# Altium footprint library PH2.0.PcbLib: 41 footprints (part 3 of 3)
Each footprint in its own frame and in the unit in brackets; x right, y up, seen from the top. Pads: shape width x height; smd on the part's side, far side on the other; paste and mask are expansions set on the pad; w line width, h text height; cw(c..) or ccw(c..) is an arc to the next point about the centre after c.
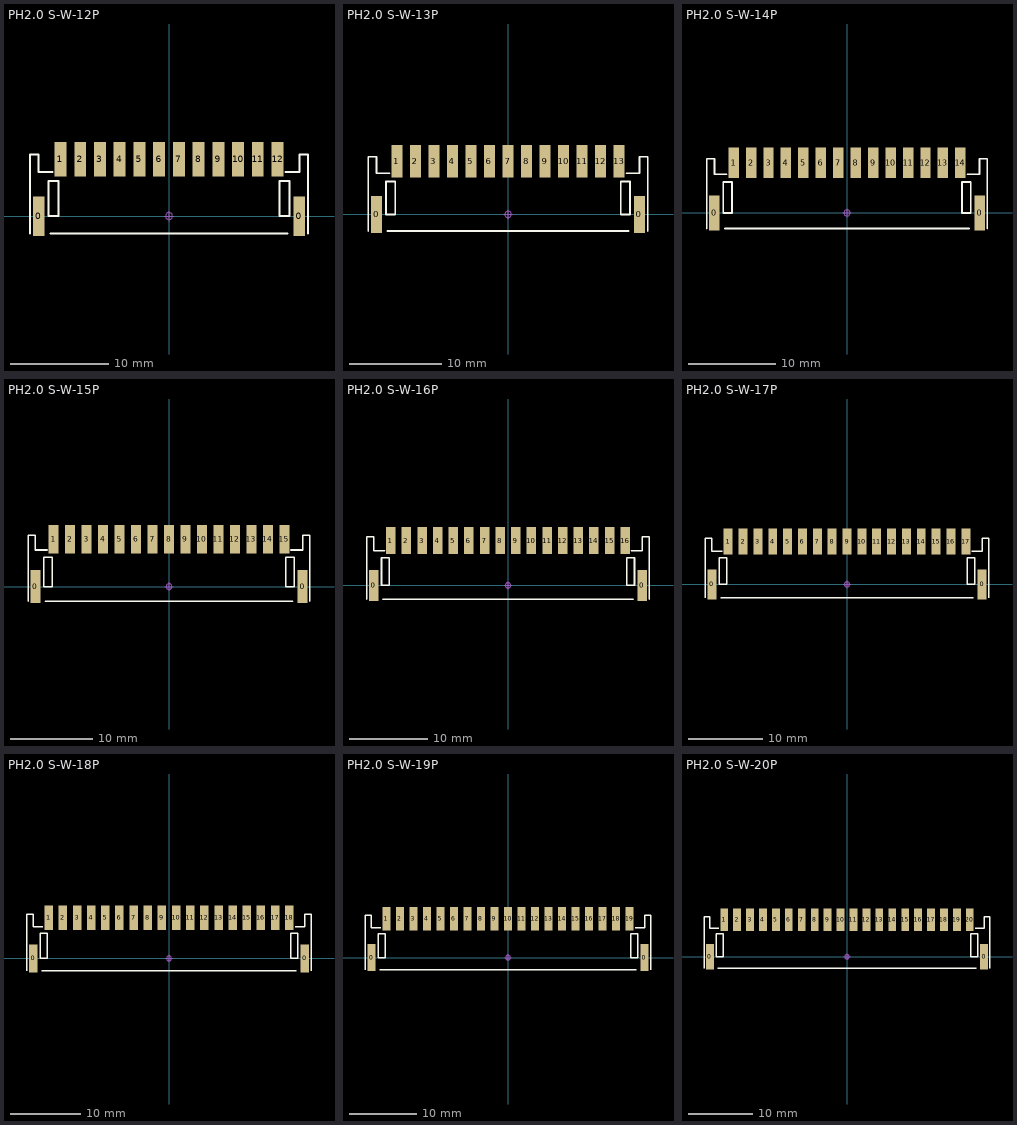
[diagram p2: the footprints below, top view; thin cyan lines are the x and y axes]

## PH2.0 S-W-12P [mm] "长：28mm，宽：7.6mm，高：5.5mm"
pads (14):
  rect 1.2x4 smd: 0(-13.2,-0.006) 0(13.2,-0.006)
  rect 1.2x3.5 smd: 1(-11,5.744) 2(-9,5.744) 3(-7,5.744) 4(-5,5.744) 5(-3,5.744) 6(-1,5.744) 7(1,5.744) 8(3,5.744) 9(5,5.744) 10(7,5.744) 11(9,5.744) 12(11,5.744)
Top Overlay:
  lines w0.2: -14.096,-1.778 -14.096,6.223 -13.207,6.223 -13.207,4.445 -11.81,4.445 ; -12,-1.778 12,-1.778 ; 11.81,4.445 13.207,4.445 13.207,6.223 14.096,6.223 14.096,-1.778 ; -12.191,0 -12.191,3.556 -11.175,3.556 -11.175,0 -12.191,0 ; 11.175,0 11.175,3.556 12.191,3.556 12.191,0 11.175,0
Mechanical 15:
  circle w0.05: c0,0 r0.35
  lines w0.05: -0.5,0 0.5,0 ; 0,-0.5 0,0.5
3D body: height 5.55, standoff 0.05, extent -14,-1.65 14,6.95

## PH2.0 S-W-13P [mm] "长：30mm，宽：7.6mm，高：5.5mm"
pads (15):
  rect 1.2x4 smd: 0(-14.2,-0.006) 0(14.2,-0.006)
  rect 1.2x3.5 smd: 1(-12,5.744) 2(-10,5.744) 3(-8,5.744) 4(-6,5.744) 5(-4,5.744) 6(-2,5.744) 7(0,5.744) 8(2,5.744) 9(4,5.744) 10(6,5.744) 11(8,5.744) 12(10,5.744) 13(12,5.744)
Top Overlay:
  lines w0.2: -15.096,-1.778 -15.096,6.223 -14.207,6.223 -14.207,4.445 -12.81,4.445 ; -13,-1.778 13,-1.778 ; 12.81,4.445 14.207,4.445 14.207,6.223 15.096,6.223 15.096,-1.778 ; -13.191,0 -13.191,3.556 -12.175,3.556 -12.175,0 -13.191,0 ; 12.175,0 12.175,3.556 13.191,3.556 13.191,0 12.175,0
Mechanical 15:
  circle w0.05: c0,0 r0.35
  lines w0.05: -0.5,0 0.5,0 ; 0,-0.5 0,0.5
3D body: height 5.55, standoff 0.05, extent -15,-1.65 15,6.95

## PH2.0 S-W-14P [mm] "长：32mm，宽：7.6mm，高：5.5mm"
pads (16):
  rect 1.2x4 smd: 0(-15.2,-0.006) 0(15.2,-0.006)
  rect 1.2x3.5 smd: 1(-13,5.744) 2(-11,5.744) 3(-9,5.744) 4(-7,5.744) 5(-5,5.744) 6(-3,5.744) 7(-1,5.744) 8(1,5.744) 9(3,5.744) 10(5,5.744) 11(7,5.744) 12(9,5.744) 13(11,5.744) 14(13,5.744)
Top Overlay:
  lines w0.2: -16.096,-1.778 -16.096,6.223 -15.207,6.223 -15.207,4.445 -13.81,4.445 ; -14,-1.778 14,-1.778 ; 13.81,4.445 15.207,4.445 15.207,6.223 16.096,6.223 16.096,-1.778 ; -14.191,0 -14.191,3.556 -13.175,3.556 -13.175,0 -14.191,0 ; 13.175,0 13.175,3.556 14.191,3.556 14.191,0 13.175,0
Mechanical 15:
  circle w0.05: c0,0 r0.35
  lines w0.05: -0.5,0 0.5,0 ; 0,-0.5 0,0.5
3D body: height 5.55, standoff 0.05, extent -16,-1.65 16,6.95

## PH2.0 S-W-15P [mm] "长：34mm，宽：7.6mm，高：5.5mm"
pads (17):
  rect 1.2x4 smd: 0(-16.2,-0.006) 0(16.2,-0.006)
  rect 1.2x3.5 smd: 1(-14,5.744) 2(-12,5.744) 3(-10,5.744) 4(-8,5.744) 5(-6,5.744) 6(-4,5.744) 7(-2,5.744) 8(0,5.744) 9(2,5.744) 10(4,5.744) 11(6,5.744) 12(8,5.744) 13(10,5.744) 14(12,5.744) 15(14,5.744)
Top Overlay:
  lines w0.2: -17.096,-1.778 -17.096,6.223 -16.207,6.223 -16.207,4.445 -14.81,4.445 ; -15,-1.778 15,-1.778 ; 14.81,4.445 16.207,4.445 16.207,6.223 17.096,6.223 17.096,-1.778 ; -15.191,0 -15.191,3.556 -14.175,3.556 -14.175,0 -15.191,0 ; 14.175,0 14.175,3.556 15.191,3.556 15.191,0 14.175,0
Mechanical 15:
  circle w0.05: c0,0 r0.35
  lines w0.05: -0.5,0 0.5,0 ; 0,-0.5 0,0.5
3D body: height 5.55, standoff 0.05, extent -17,-1.65 17,6.95

## PH2.0 S-W-16P [mm] "长：36mm，宽：7.6mm，高：5.5mm"
pads (18):
  rect 1.2x4 smd: 0(-17.2,-0.006) 0(17.2,-0.006)
  rect 1.2x3.5 smd: 1(-15,5.744) 2(-13,5.744) 3(-11,5.744) 4(-9,5.744) 5(-7,5.744) 6(-5,5.744) 7(-3,5.744) 8(-1,5.744) 9(1,5.744) 10(3,5.744) 11(5,5.744) 12(7,5.744) 13(9,5.744) 14(11,5.744) 15(13,5.744) 16(15,5.744)
Top Overlay:
  lines w0.2: -18.096,-1.778 -18.096,6.223 -17.207,6.223 -17.207,4.445 -15.81,4.445 ; -16,-1.778 16,-1.778 ; 15.81,4.445 17.207,4.445 17.207,6.223 18.096,6.223 18.096,-1.778 ; -16.191,0 -15.175,0 -15.175,3.556 -16.191,3.556 -16.191,0 ; 15.175,0 16.191,0 16.191,3.556 15.175,3.556 15.175,0
Mechanical 15:
  circle w0.05: c0,0 r0.35
  lines w0.05: -0.5,0 0.5,0 ; 0,-0.5 0,0.5
3D body: height 5.55, standoff 0.05, extent -18,-1.65 18,6.95

## PH2.0 S-W-17P [mm] "长：38mm，宽：7.6mm，高：5.5mm"
pads (19):
  rect 1.2x4 smd: 0(-18.2,-0.006) 0(18.2,-0.006)
  rect 1.2x3.5 smd: 1(-16,5.744) 2(-14,5.744) 3(-12,5.744) 4(-10,5.744) 5(-8,5.744) 6(-6,5.744) 7(-4,5.744) 8(-2,5.744) 9(0,5.744) 10(2,5.744) 11(4,5.744) 12(6,5.744) 13(8,5.744) 14(10,5.744) 15(12,5.744) 16(14,5.744) 17(16,5.744)
Top Overlay:
  lines w0.2: -19.096,-1.778 -19.096,6.223 -18.207,6.223 -18.207,4.445 -16.81,4.445 ; -17,-1.778 17,-1.778 ; 16.81,4.445 18.207,4.445 18.207,6.223 19.096,6.223 19.096,-1.778 ; -17.191,0 -17.191,3.556 -16.175,3.556 -16.175,0 -17.191,0 ; 16.175,0 16.175,3.556 17.191,3.556 17.191,0 16.175,0
Mechanical 15:
  circle w0.05: c0,0 r0.35
  lines w0.05: -0.5,0 0.5,0 ; 0,-0.5 0,0.5
3D body: height 5.55, standoff 0.05, extent -19,-1.65 19,6.95

## PH2.0 S-W-18P [mm] "长：40mm，宽：7.6mm，高：5.5mm"
pads (20):
  rect 1.2x4 smd: 0(-19.2,-0.006) 0(19.2,-0.006)
  rect 1.2x3.5 smd: 1(-17,5.744) 2(-15,5.744) 3(-13,5.744) 4(-11,5.744) 5(-9,5.744) 6(-7,5.744) 7(-5,5.744) 8(-3,5.744) 9(-1,5.744) 10(1,5.744) 11(3,5.744) 12(5,5.744) 13(7,5.744) 14(9,5.744) 15(11,5.744) 16(13,5.744) 17(15,5.744) 18(17,5.744)
Top Overlay:
  lines w0.2: -20.096,-1.778 -20.096,6.223 -19.207,6.223 -19.207,4.445 -17.81,4.445 ; -18,-1.778 18,-1.778 ; 17.81,4.445 19.207,4.445 19.207,6.223 20.096,6.223 20.096,-1.778 ; -18.191,0 -18.191,3.556 -17.175,3.556 -17.175,0 -18.191,0 ; 17.175,0 17.175,3.556 18.191,3.556 18.191,0 17.175,0
Mechanical 15:
  circle w0.05: c0,0 r0.35
  lines w0.05: -0.5,0 0.5,0 ; 0,-0.5 0,0.5
3D body: height 5.55, standoff 0.05, extent -20,-1.65 20,6.95

## PH2.0 S-W-19P [mm] "长：42mm，宽：7.6mm，高：5.5mm"
pads (21):
  rect 1.2x4 smd: 0(-20.2,-0.006) 0(20.2,-0.006)
  rect 1.2x3.5 smd: 1(-18,5.744) 2(-16,5.744) 3(-14,5.744) 4(-12,5.744) 5(-10,5.744) 6(-8,5.744) 7(-6,5.744) 8(-4,5.744) 9(-2,5.744) 10(0,5.744) 11(2,5.744) 12(4,5.744) 13(6,5.744) 14(8,5.744) 15(10,5.744) 16(12,5.744) 17(14,5.744) 18(16,5.744) 19(18,5.744)
Top Overlay:
  lines w0.2: -21.096,-1.778 -21.096,6.223 -20.207,6.223 -20.207,4.445 -18.81,4.445 ; -19,-1.778 19,-1.778 ; 18.81,4.445 20.207,4.445 20.207,6.223 21.096,6.223 21.096,-1.778 ; -19.191,0 -19.191,3.556 -18.175,3.556 -18.175,0 -19.191,0 ; 18.175,0 18.175,3.556 19.191,3.556 19.191,0 18.175,0
Mechanical 15:
  circle w0.05: c0,0 r0.35
  lines w0.05: -0.5,0 0.5,0 ; 0,-0.5 0,0.5
3D body: height 5.55, standoff 0.05, extent -21,-1.65 21,6.95

## PH2.0 S-W-20P [mm] "长：44mm，宽：7.6mm，高：5.5mm"
pads (22):
  rect 1.2x4 smd: 0(-21.2,-0.006) 0(21.2,-0.006)
  rect 1.2x3.5 smd: 1(-19,5.744) 2(-17,5.744) 3(-15,5.744) 4(-13,5.744) 5(-11,5.744) 6(-9,5.744) 7(-7,5.744) 8(-5,5.744) 9(-3,5.744) 10(-1,5.744) 11(1,5.744) 12(3,5.744) 13(5,5.744) 14(7,5.744) 15(9,5.744) 16(11,5.744) 17(13,5.744) 18(15,5.744) 19(17,5.744) 20(19,5.744)
Top Overlay:
  lines w0.2: -22.096,-1.778 -22.096,6.223 -21.207,6.223 -21.207,4.445 -19.81,4.445 ; -20,-1.778 20,-1.778 ; 19.81,4.445 21.207,4.445 21.207,6.223 22.096,6.223 22.096,-1.778 ; -20.191,0 -19.175,0 -19.175,3.556 -20.191,3.556 -20.191,0 ; 19.175,0 20.191,0 20.191,3.556 19.175,3.556 19.175,0
Mechanical 15:
  circle w0.05: c0,0 r0.35
  lines w0.05: -0.5,0 0.5,0 ; 0,-0.5 0,0.5
3D body: height 5.55, standoff 0.05, extent -22,-1.65 22,6.95